# EAGLE library part 2*MK3DS1/9-3,81 (library untitled)
54-polige, dreistckige Reihenklemme im Raster 3.81mm zusammengesetzt aus 2*Phoenix MK3DS1/9, Artikelnummer 1727803
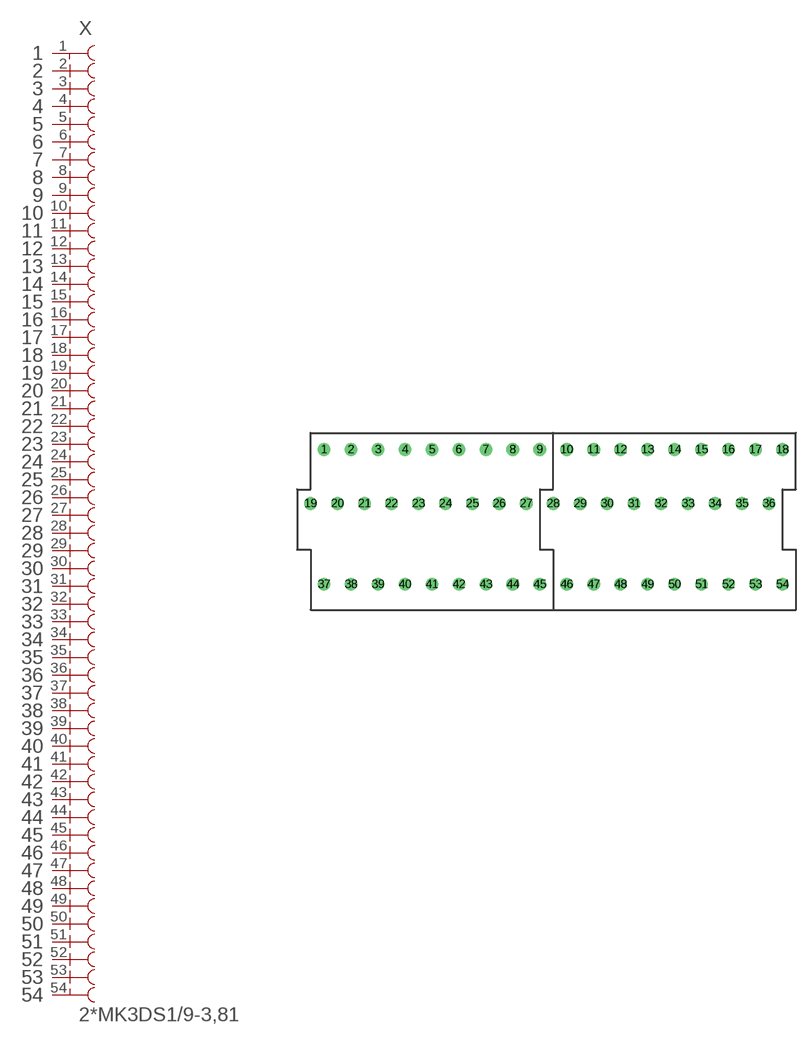
[diagram p11: symbol with the pads of 2*MK3DS1/9; footprint 2*MK3DS1/9]

Designator prefix X

## 2MK3DS1/9-3,81  [2*MK3DS1/9]
1  1  pas
2  2  pas
3  3  pas
4  4  pas
5  5  pas
6  6  pas
7  7  pas
8  8  pas
9  9  pas
10  10  pas
11  11  pas
12  12  pas
13  13  pas
14  14  pas
15  15  pas
16  16  pas
17  17  pas
18  18  pas
19  19  pas
20  20  pas
21  21  pas
22  22  pas
23  23  pas
24  24  pas
25  25  pas
26  26  pas
27  27  pas
28  28  pas
29  29  pas
30  30  pas
31  31  pas
32  32  pas
33  33  pas
34  34  pas
35  35  pas
36  36  pas
37  37  pas
38  38  pas
39  39  pas
40  40  pas
41  41  pas
42  42  pas
43  43  pas
44  44  pas
45  45  pas
46  46  pas
47  47  pas
48  48  pas
49  49  pas
50  50  pas
51  51  pas
52  52  pas
53  53  pas
54  54  pas

## Footprint 2*MK3DS1/9 (pad centres in mm)
54-polige, dreistckige Reihenklemme zusammengesetzt aus 2*Phoenix MK3DS1/9
drill 1.194 pad 1.778 round: 1 0,19.05; 2 3.81,19.05; 3 7.62,19.05; 4 11.43,19.05; 5 15.24,19.05; 6 19.05,19.05; 7 22.86,19.05; 8 26.67,19.05; 9 30.48,19.05; 10 34.29,19.05; 11 38.1,19.05; 12 41.91,19.05; 13 45.72,19.05; 14 49.53,19.05; 15 53.34,19.05; 16 57.15,19.05; 17 60.96,19.05; 18 64.77,19.05; 19 -1.905,11.43; 20 1.905,11.43; 21 5.715,11.43; 22 9.525,11.43; 23 13.335,11.43; 24 17.145,11.43; 25 20.955,11.43; 26 24.765,11.43; 27 28.575,11.43; 28 32.385,11.43; 29 36.195,11.43; 30 40.005,11.43; 31 43.815,11.43; 32 47.625,11.43; 33 51.435,11.43; 34 55.245,11.43; 35 59.055,11.43; 36 62.865,11.43; 37 0,0; 38 3.81,0; 39 7.62,0; 40 11.43,0; 41 15.24,0; 42 19.05,0; 43 22.86,0; 44 26.67,0; 45 30.48,0; 46 34.29,0; 47 38.1,0; 48 41.91,0; 49 45.72,0; 50 49.53,0; 51 53.34,0; 52 57.15,0; 53 60.96,0; 54 64.77,0